# Altium footprint library Трансформаторы импульсные (открытого исполения).PcbLib: 55 footprints (part 4 of 4)
Each footprint in its own frame and in the unit in brackets; x right, y up, seen from the top. Pads: shape width x height; smd on the part's side, far side on the other; paste and mask are expansions set on the pad; w line width, h text height; cw(c..) or ccw(c..) is an arc to the next point about the centre after c.
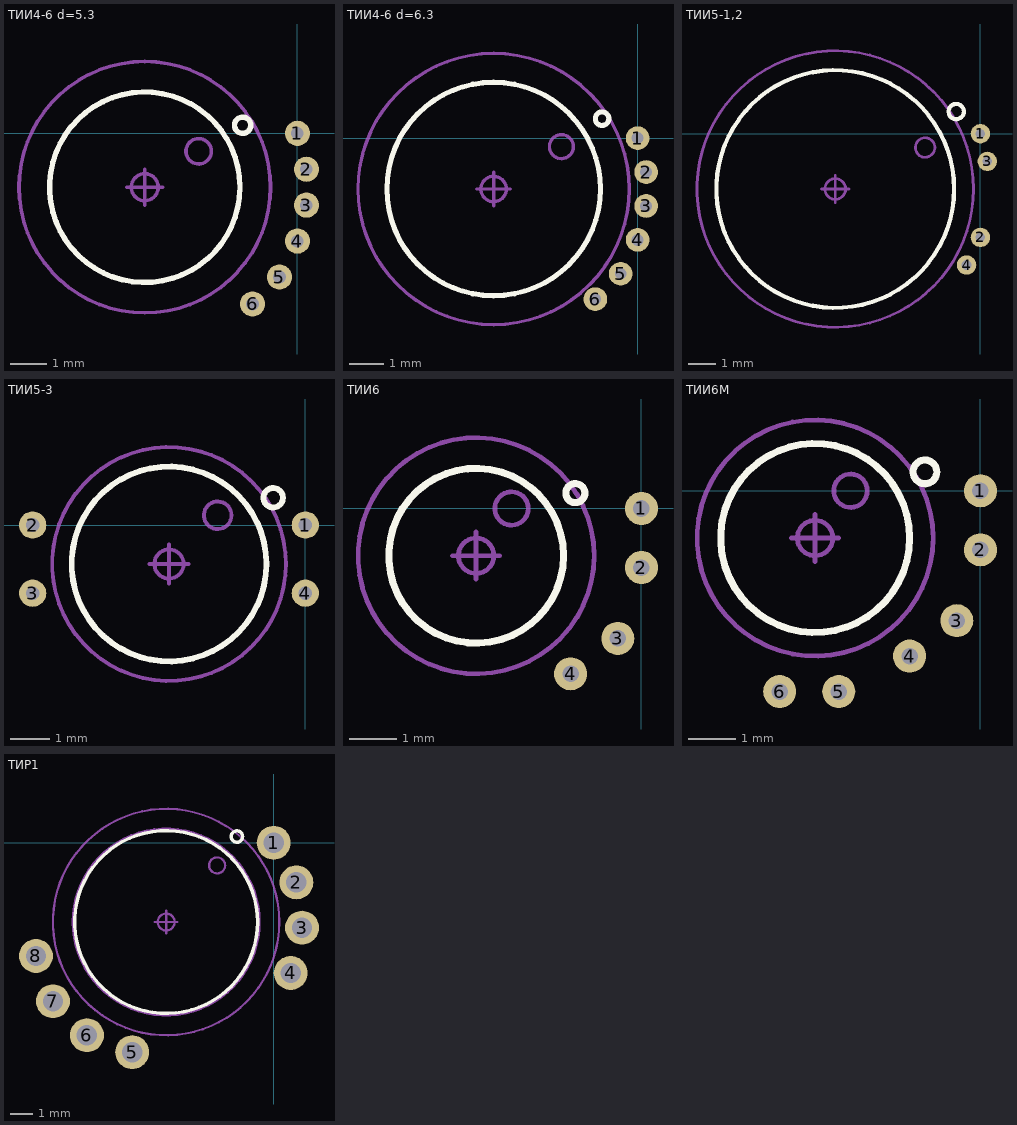
[diagram p3: the footprints below, top view; thin cyan lines are the x and y axes]

## ТИИ4-6 d=5.3 [mm] "5,3x5,3x2,7max, 0.2g max"
height 2.7
pads (6):
  round 0.7 hole 0.35: 1(0,0) 2(0.25,-1) 3(0.25,-2) 4(0,-3) 5(-0.5,-4) 6(-1.25,-4.75)
Top Overlay:
  circle w0.15: c-4.25,-1.5 r2.65
  circle w0.15: c-1.525,0.225 r0.226
Top Assembly:
  circle w0.1: c-4.25,-1.5 r2.65
  circle w0.1: c-2.75,-0.5 r0.354
Top Courtyard (Mech15):
  circle w0.1: c-4.25,-1.5 r0.375
  circle w0.1: c-4.25,-1.5 r3.5
  lines w0.1: -4.75,-1.5 -3.75,-1.5 ; -4.25,-2 -4.25,-1
3D body: height 0.25, standoff 0, extent -4.25,-1.5 -4.25,-1.5
3D body: height 0.25, standoff 0, extent -12,-5.5 -12,-5.5

## ТИИ4-6 d=6.3 [mm] "6,3x6,3x2,9max, 0.3g max"
height 2.9
pads (6):
  round 0.7 hole 0.35: 1(0,0) 2(0.25,-1) 3(0.25,-2) 4(0,-3) 5(-0.5,-4) 6(-1.25,-4.75)
Top Overlay:
  circle w0.15: c-1.05,0.575 r0.2
  circle w0.15: c-4.25,-1.5 r3.15
Top Assembly:
  circle w0.1: c-2.25,-0.25 r0.354
  circle w0.1: c-4.25,-1.5 r3.15
Top Courtyard (Mech15):
  circle w0.1: c-4.25,-1.5 r4
  circle w0.1: c-4.25,-1.5 r0.375
  lines w0.1: -4.75,-1.5 -3.75,-1.5 ; -4.25,-2 -4.25,-1
3D body: height 0.25, standoff 0, extent -12,-5.5 -12,-5.5
3D body: height 0.25, standoff 0, extent -4.25,-1.5 -4.25,-1.5

## ТИИ5-1,2 [mm] "8,6x8,6x4, 1g"
height 4
pads (4):
  round 0.7 hole 0.35: 1(0,0) 2(0,-3.75) 3(0.25,-1) 4(-0.5,-4.75)
Top Overlay:
  circle w0.15: c-0.875,0.8 r0.276
  circle w0.15: c-5.25,-2 r4.3
Top Assembly:
  circle w0.1: c-2,-0.5 r0.354
  circle w0.1: c-5.25,-2 r4.3
Top Courtyard (Mech15):
  circle w0.1: c-5.25,-2 r5
  circle w0.1: c-5.25,-2 r0.375
  lines w0.1: -5.75,-2 -4.75,-2 ; -5.25,-2.5 -5.25,-1.5
3D body: height 0.25, standoff 0, extent -13,-6 -13,-6
3D body: height 0.25, standoff 0, extent -5.25,-2 -5.25,-2

## ТИИ5-3 [mm] "5x5x4, 0,5g"
height 4
pads (4):
  round 0.7 hole 0.35: 1(0,0) 2(-7,0) 3(-7,-1.75) 4(0,-1.75)
Top Overlay:
  circle w0.15: c-3.5,-1 r2.5
  circle w0.15: c-0.825,0.7 r0.25
Top Assembly:
  circle w0.1: c-3.5,-1 r2.5
  circle w0.1: c-2.25,0.25 r0.354
Top Courtyard (Mech15):
  circle w0.1: c-3.5,-1 r0.375
  circle w0.1: c-3.5,-1 r3
  lines w0.1: -4,-1 -3,-1 ; -3.5,-1.5 -3.5,-0.5
3D body: height 0.25, standoff 0, extent -3.5,-1 -3.5,-1
3D body: height 0.25, standoff 0, extent -11.25,-5 -11.25,-5

## ТИИ6 [mm] "3,7x3,7x1,5, 0,1g"
height 1.5
pads (4):
  round 0.7 hole 0.35: 1(0,0) 2(0,-1.25) 3(-0.5,-2.75) 4(-1.5,-3.5)
Top Overlay:
  circle w0.15: c-3.5,-1 r1.85
  circle w0.15: c-1.4,0.325 r0.202
Top Assembly:
  circle w0.1: c-3.5,-1 r1.85
  circle w0.1: c-2.75,0 r0.354
Top Courtyard (Mech15):
  circle w0.1: c-3.5,-1 r0.375
  circle w0.1: c-3.5,-1 r2.5
  lines w0.1: -4,-1 -3,-1 ; -3.5,-1.5 -3.5,-0.5
3D body: height 0.25, standoff 0, extent -3.5,-1 -3.5,-1
3D body: height 0.25, standoff 0, extent -11.25,-5 -11.25,-5

## ТИИ6М [mm] "4x4x2,1, 0,1g"
height 2.1
pads (6):
  round 0.7 hole 0.35: 1(0,0) 2(0,-1.25) 3(-0.5,-2.75) 4(-1.5,-3.5) 5(-3,-4.25) 6(-4.25,-4.25)
Top Overlay:
  circle w0.15: c-1.175,0.4 r0.251
  circle w0.15: c-3.5,-1 r2
Top Assembly:
  circle w0.1: c-2.75,0 r0.354
  circle w0.1: c-3.5,-1 r2
Top Courtyard (Mech15):
  circle w0.1: c-3.5,-1 r2.5
  circle w0.1: c-3.5,-1 r0.375
  lines w0.1: -4,-1 -3,-1 ; -3.5,-1.5 -3.5,-0.5
3D body: height 0.25, standoff 0, extent -11.25,-5 -11.25,-5
3D body: height 0.25, standoff 0, extent -3.5,-1 -3.5,-1

## ТИР1 [mm] "8,5х8,5х2,2max, 0.6g"
height 2.2
pads (8):
  round 1.5 hole 0.9: 1(0,0) 2(1,-1.75) 3(1.25,-3.75) 4(0.75,-5.75) 5(-6.25,-9.25) 6(-8.25,-8.5) 7(-9.75,-7) 8(-10.5,-5)
Top Overlay:
  circle w0.15: c-4.75,-3.5 r4.039
  circle w0.15: c-1.625,0.275 r0.251
Top Assembly:
  circle w0.1: c-4.75,-3.5 r4.125
  circle w0.1: c-2.5,-1 r0.354
Top Courtyard (Mech15):
  circle w0.1: c-4.75,-3.5 r5
  circle w0.1: c-4.75,-3.5 r0.375
  lines w0.1: -5.25,-3.5 -4.25,-3.5 ; -4.75,-4 -4.75,-3
3D body: height 0.25, standoff 0, extent -12.5,-7.5 -12.5,-7.5
3D body: height 0.25, standoff 0, extent -4.75,-3.5 -4.75,-3.5
3D body "Трансформатор ТИР1.stp": height 2.27, standoff 0.07, extent -8.942,-7.75 -0.558,0.744